# EAGLE library part 8002A (library added_parts)
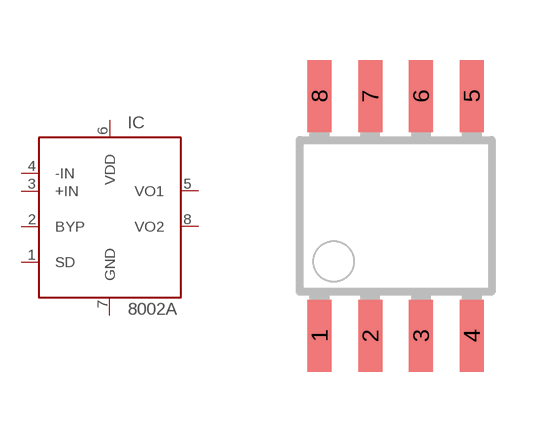
[diagram p22: symbol with the pads of SOP-8; footprint SOP-8]

Designator prefix IC

## 8002A  [SOP-8]
1  SD  in
2  BYP  pas
3  +IN  in
4  -IN  in
5  VO1  out
6  VDD  pwr
7  GND  pwr
8  VO2  out

## Footprint SOP-8 (pad centres in mm)
smd 0.6 x 1.8: 1 -1.905,-3; 2 -0.635,-3; 3 0.635,-3; 4 1.905,-3; 5 1.905,3; 6 0.635,3; 7 -0.635,3; 8 -1.905,3